# Altium schematic symbol library 6.0 - 5.0mm连接器(KF301-KF2EDGVHM).SchLib: 21 symbols
Pins are listed as number, name and electrical type; pins without a type are passive.

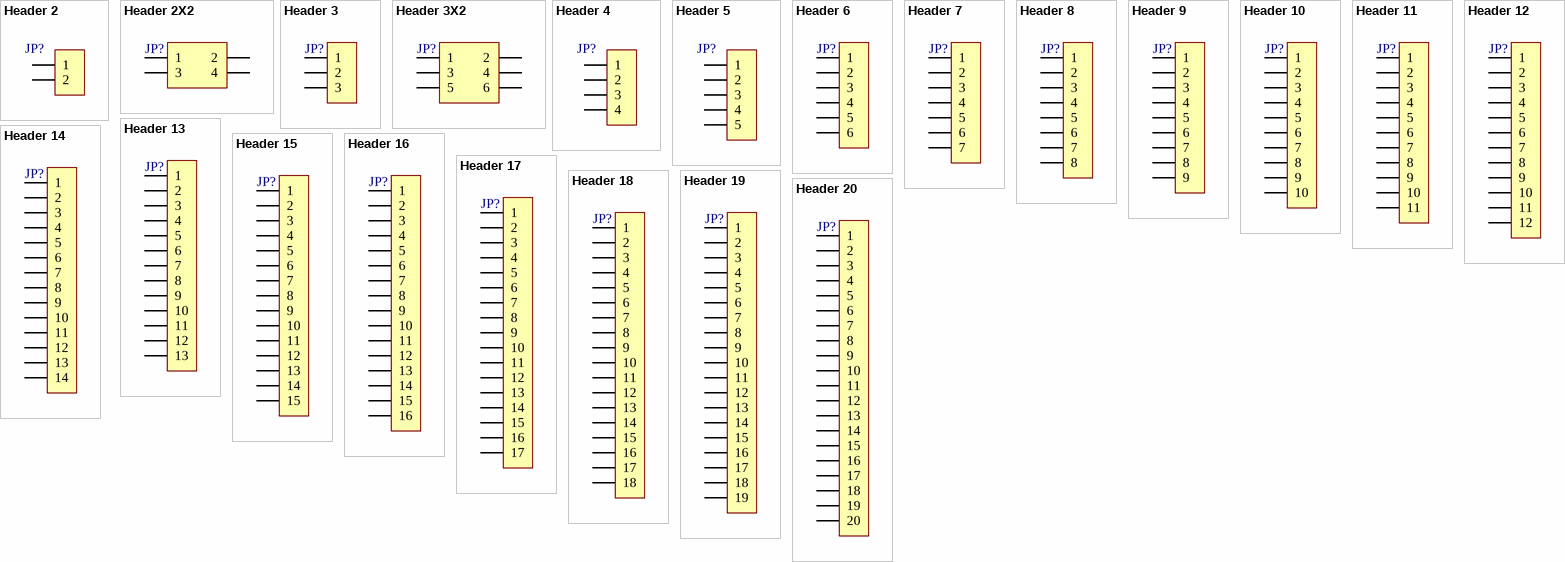
[diagram p0: symbols Header 2 to Header 20]

## Header 2
designator JP?, comment HDR-1X2  (value not drawn)
2P接插件; 封装库来自淘宝卖家： 黄晶宝石: 最新版本发布https://shop463601444.taobao.com; BOM名称: 2P接插件
footprint KF2EDGK5.0-LI-2P (立插端子)
footprint KF2EDGK5.0-WI-2P (卧插端子)
footprint KF301-5.0-2P (可拼接端子/6A)
pins: 1, 2

## Header 2X2
designator JP?, comment Header2X2  (value not drawn)
2*2P接插件; 封装库来自淘宝卖家： 黄晶宝石: 最新版本发布https://shop463601444.taobao.com; BOM名称: 2*2P接插件
footprint KF2EDGVHM-5.0-2-2P (双排插拔式接线端子)
pins: 1, 2, 3, 4

## Header 3
designator JP?, comment HDR-1X3  (value not drawn)
3P接插件; 封装库来自淘宝卖家： 黄晶宝石: 最新版本发布https://shop463601444.taobao.com; BOM名称: 3P接插件
footprint KF2EDGK5.0-LI-3P (立插端子)
footprint KF2EDGK5.0-WI-3P (卧插端子)
footprint KF301-5.0-3P (可拼接端子/6A)
pins: 1, 2, 3

## Header 3X2
designator JP?, comment Header3X2  (value not drawn)
3*2P接插件; 封装库来自淘宝卖家： 黄晶宝石: 最新版本发布https://shop463601444.taobao.com; BOM名称: 3*2P接插件
footprint KF2EDGVHM-5.0-2-3P (双排插拔式接线端子)
pins: 1, 2, 3, 4, 5, 6

## Header 4
designator JP?, comment HDR-1X4  (value not drawn)
4P接插件; 封装库来自淘宝卖家： 黄晶宝石: 最新版本发布https://shop463601444.taobao.com; BOM名称: 4P接插件
footprint KF2EDGK5.0-LI-4P (立插端子)
footprint KF2EDGK5.0-WI-4P (卧插端子)
footprint KF301-5.0-4P (可拼接端子/6A)
pins: 1, 2, 3, 4

## Header 5
designator JP?, comment HDR-1X5  (value not drawn)
5P接插件; 封装库来自淘宝卖家： 黄晶宝石: 最新版本发布https://shop463601444.taobao.com; BOM名称: 5P接插件
footprint KF2EDGK5.0-LI-5P (立插端子)
footprint KF2EDGK5.0-WI-5P (卧插端子)
footprint KF301-5.0-5P (可拼接端子/6A)
pins: 1, 2, 3, 4, 5

## Header 6
designator JP?, comment HDR-1X6  (value not drawn)
6P接插件; 封装库来自淘宝卖家： 黄晶宝石: 最新版本发布https://shop463601444.taobao.com; BOM名称: 6P接插件
footprint KF2EDGK5.0-LI-6P (立插端子)
footprint KF2EDGK5.0-WI-6P (卧插端子)
footprint KF301-5.0-6P (可拼接端子/6A)
pins: 1, 2, 3, 4, 5, 6

## Header 7
designator JP?, comment HDR-1X7  (value not drawn)
7P接插件; 封装库来自淘宝卖家： 黄晶宝石: 最新版本发布https://shop463601444.taobao.com; BOM名称: 7P接插件
footprint KF2EDGK5.0-LI-7P (立插端子)
footprint KF2EDGK5.0-WI-7P (卧插端子)
footprint KF301-5.0-7P (可拼接端子/6A)
pins: 1, 2, 3, 4, 5, 6, 7

## Header 8
designator JP?, comment HDR-1X8  (value not drawn)
8P接插件; 封装库来自淘宝卖家： 黄晶宝石: 最新版本发布https://shop463601444.taobao.com; BOM名称: 8P接插件
footprint KF2EDGK5.0-LI-8P (立插端子)
footprint KF2EDGK5.0-WI-8P (卧插端子)
footprint KF301-5.0-8P (可拼接端子/6A)
pins: 1, 2, 3, 4, 5, 6, 7, 8

## Header 9
designator JP?, comment HDR-1X9  (value not drawn)
9P接插件; 封装库来自淘宝卖家： 黄晶宝石: 最新版本发布https://shop463601444.taobao.com; BOM名称: 9P接插件
footprint KF301-5.0-9P (可拼接端子/6A)
pins: 1, 2, 3, 4, 5, 6, 7, 8, 9

## Header 10
designator JP?, comment HDR-1X10  (value not drawn)
10P接插件; 封装库来自淘宝卖家： 黄晶宝石: 最新版本发布https://shop463601444.taobao.com; BOM名称: 10P接插件
footprint KF301-5.0-10P (可拼接端子/6A)
pins: 1, 2, 3, 4, 5, 6, 7, 8, 9, 10

## Header 11
designator JP?, comment HDR-1X11  (value not drawn)
11P接插件; 封装库来自淘宝卖家： 黄晶宝石: 最新版本发布https://shop463601444.taobao.com; BOM名称: 11P接插件
footprint KF301-5.0-11P (可拼接端子/6A)
pins: 1, 2, 3, 4, 5, 6, 7, 8, 9, 10, 11

## Header 12
designator JP?, comment HDR-1X12  (value not drawn)
12P接插件; 封装库来自淘宝卖家： 黄晶宝石: 最新版本发布https://shop463601444.taobao.com; BOM名称: 12P接插件
footprint KF301-5.0-12P (可拼接端子/6A)
pins: 1, 2, 3, 4, 5, 6, 7, 8, 9, 10, 11, 12

## Header 13
designator JP?, comment HDR-1X13  (value not drawn)
13P接插件; 封装库来自淘宝卖家： 黄晶宝石: 最新版本发布https://shop463601444.taobao.com; BOM名称: 13P接插件
footprint KF301-5.0-13P (可拼接端子/6A)
pins: 1, 2, 3, 4, 5, 6, 7, 8, 9, 10, 11, 12, 13

## Header 14
designator JP?, comment HDR-1X14  (value not drawn)
14P接插件; 封装库来自淘宝卖家： 黄晶宝石: 最新版本发布https://shop463601444.taobao.com; BOM名称: 14P接插件
footprint KF301-5.0-14P (可拼接端子/6A)
pins: 1, 2, 3, 4, 5, 6, 7, 8, 9, 10, 11, 12, 13, 14

## Header 15
designator JP?, comment HDR-1X15  (value not drawn)
15P接插件; 封装库来自淘宝卖家： 黄晶宝石: 最新版本发布https://shop463601444.taobao.com; BOM名称: 15P接插件
footprint KF301-5.0-15P (可拼接端子/6A)
pins: 1, 2, 3, 4, 5, 6, 7, 8, 9, 10, 11, 12, 13, 14, 15

## Header 16
designator JP?, comment HDR-1X16  (value not drawn)
16P接插件; 封装库来自淘宝卖家： 黄晶宝石: 最新版本发布https://shop463601444.taobao.com; BOM名称: 16P接插件
pins: 1, 2, 3, 4, 5, 6, 7, 8, 9, 10, 11, 12, 13, 14, 15, 16

## Header 17
designator JP?, comment HDR-1X17  (value not drawn)
17P接插件; 封装库来自淘宝卖家： 黄晶宝石: 最新版本发布https://shop463601444.taobao.com; BOM名称: 17P接插件
pins: 1, 2, 3, 4, 5, 6, 7, 8, 9, 10, 11, 12, 13, 14, 15, 16, 17

## Header 18
designator JP?, comment HDR-1X18  (value not drawn)
18P接插件; 封装库来自淘宝卖家： 黄晶宝石: 最新版本发布https://shop463601444.taobao.com; BOM名称: 18P接插件
pins: 1, 2, 3, 4, 5, 6, 7, 8, 9, 10, 11, 12, 13, 14, 15, 16, 17, 18

## Header 19
designator JP?, comment HDR-1X19  (value not drawn)
19P接插件; 封装库来自淘宝卖家： 黄晶宝石: 最新版本发布https://shop463601444.taobao.com; BOM名称: 19P接插件
pins: 1, 2, 3, 4, 5, 6, 7, 8, 9, 10, 11, 12, 13, 14, 15, 16, 17, 18, 19

## Header 20
designator JP?, comment HDR-1X20  (value not drawn)
20P接插件; 封装库来自淘宝卖家： 黄晶宝石: 最新版本发布https://shop463601444.taobao.com; BOM名称: 20P接插件
pins: 1, 2, 3, 4, 5, 6, 7, 8, 9, 10, 11, 12, 13, 14, 15, 16, 17, 18, 19, 20